# Altium footprint library DB9.PcbLib: 1 footprints
Each footprint in its own frame and in the unit in brackets; x right, y up, seen from the top. Pads: shape width x height; smd on the part's side, far side on the other; paste and mask are expansions set on the pad; w line width, h text height; cw(c..) or ccw(c..) is an arc to the next point about the centre after c.
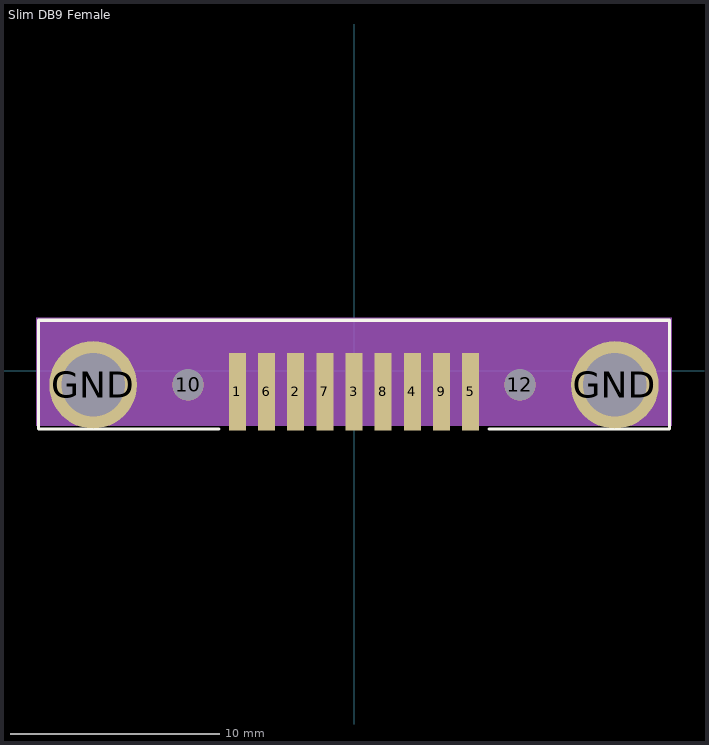
[diagram p0: the footprint, top view; thin cyan lines are the x and y axes]

## Slim DB9 Female [mil] "Norcomp Slim DB9 Female Receptical 190-009-263"
pads (13):
  rect 32x146 smd: 1(-220,-40) 2(-110,-40) 3(0,-40) 4(110,-40) 5(220,-40) 6(-165,-40) 7(-55,-40) 8(55,-40) 9(165,-40)
  round 59 hole 59 unplated: 10(-313,-27) 12(313,-27)
  round 165 hole 120: GND(-492,-27) GND(492,-27)
Top Overlay:
  lines w6: -255,-110 -595,-110 -595,95 595,95 595,-110 255,-110
Mechanical 1:
  rectangle: -600,-105 600,100
3D body: height 420, standoff -146.99, extent -592.5,-58 592.5,360